# Altium footprint library U10.5.PcbLib: 1 footprints
Each footprint in its own frame and in the unit in brackets; x right, y up, seen from the top. Pads: shape width x height; smd on the part's side, far side on the other; paste and mask are expansions set on the pad; w line width, h text height; cw(c..) or ccw(c..) is an arc to the next point about the centre after c.
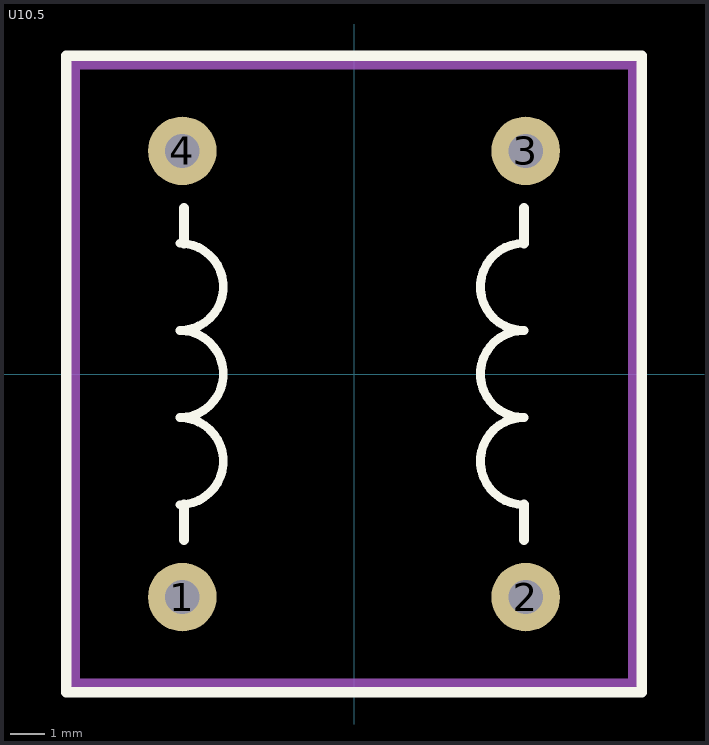
[diagram p0: the footprint, top view; thin cyan lines are the x and y axes]

## U10.5 [mm] "http://www.premiermag.com"
pads (4):
  round 2 hole 1: 1(-5,-6.5) 2(5,-6.5) 3(5,6.5) 4(-5,6.5)
Top Overlay:
  lines w0.254: -5.08,-3.81 ccw(c-5.08,-2.54) -5.08,-1.27 ccw(c-5.08,0) -5.08,1.27 ccw(c-5.08,2.54) -5.08,3.81 ; 4.953,-3.81 cw(c4.953,-2.54) 4.953,-1.27 cw(c4.953,0) 4.953,1.27 cw(c4.953,2.54) 4.953,3.81
  lines w0.3: -4.953,-4.826 -4.953,-3.81 ; -4.953,3.81 -4.953,4.826 ; 4.953,-4.826 4.953,-3.81 ; 4.953,3.81 4.953,4.826 ; -8.382,-9.271 -8.382,9.271 8.382,9.271 8.382,-9.271 -8.382,-9.271
Mechanical 13:
  lines w0.3: -8.128,-9.017 -8.128,9.017 8.128,9.017 8.128,-9.017 -8.128,-9.017
  text ".Designator" at -2.6,-3.98 h2.5
3D body: height 21.7, standoff -3, extent -8.25,-9.2 8.25,9.2